# EAGLE library part USB3.0A (library alexwhittemore-eagle)
Usb3.0A Amphenol USB 3.0 A jack
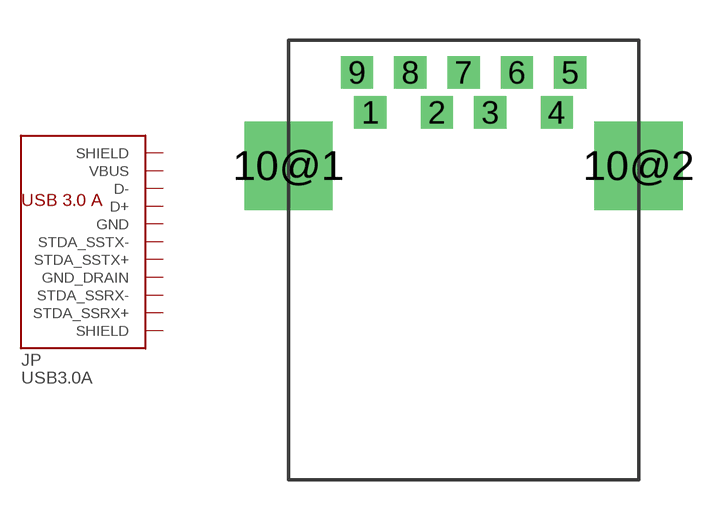
[diagram p5: symbol with the pads of AMPHENOLUSB3.0A; footprint AMPHENOLUSB3.0A]

Designator prefix JP

## USB3.0A  [AMPHENOLUSB3.0A]
1  VBUS
2  D-
3  D+
4  GND
5  STDA_SSRX-
6  STDA_SSRX+
7  GND_DRAIN
8  STDA_SSTX-
9  STDA_SSTX+
10@1  SHIELD
10@2  SHIELD

## Footprint AMPHENOLUSB3.0A (pad centres in mm)
drill 0.7 square: 1 -3.5,2; 2 -1,2; 3 1,2; 4 3.5,2; 5 4,3.5; 6 2,3.5; 7 0,3.5; 8 -2,3.5; 9 -4,3.5
drill 2.3 square: 10@1 -6.57,0; 10@2 6.57,0